# Altium schematic symbol library C 传感器.SCHLIB: 26 symbols
Pins are listed as number, name and electrical type; pins without a type are passive.

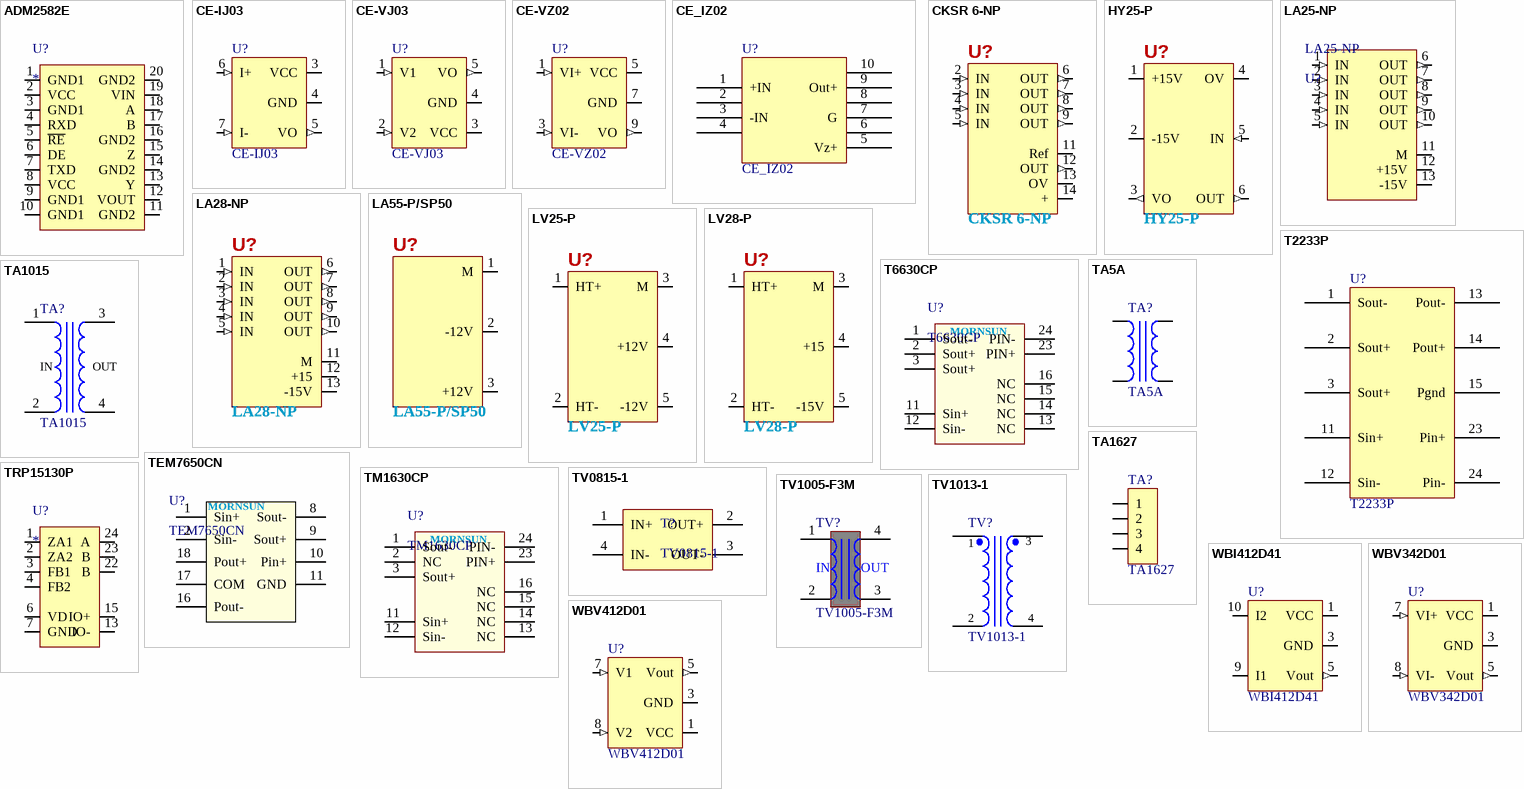
[diagram p0: symbols ADM2582E to WBV412D01]

## ADM2582E
designator U?
pins: 1 GND1, 2 VCC, 3 GND1, 4 RXD, 5 ~{RE}, 6 DE, 7 TXD, 8 VCC, 9 GND1, 10 GND1, 11 GND2, 12 VOUT, 13 Y, 14 GND2, 15 Z, 16 GND2, 17 B, 18 A, 19 VIN, 20 GND2

## CE-IJ03
designator U?
传感器-电流
pins: 3 VCC (power), 4 GND (power), 5 VO (out), 6 I+ (in), 7 I- (in)

## CE-VJ03
designator U?
传感器-交流电压
pins: 1 V1 (in), 2 V2 (in), 3 VCC (power), 4 GND (power), 5 VO (out)

## CE-VZ02
designator U?
传感器-直流电压
footprint CE-H2
pins: 1 VI+ (in), 3 VI- (in), 5 VCC (power), 7 GND (power), 9 VO (out)

## CE_IZ02
designator U?
传感器—电流
pins: 1 +IN, 2 hidden, 3 -IN, 4 hidden, 5 Vz+, 6 hidden, 7 G, 8 hidden, 9 Out+, 10 hidden

## CKSR 6-NP
designator U?
电流传感器
pins: 2 IN (in), 3 IN (in), 4 IN (in), 5 IN (in), 6 OUT (out), 7 OUT (out), 8 OUT (out), 9 OUT (out), 11 Ref (power), 12 OUT (out), 13 OV (power), 14 + (power)
2 alternate drawings of the same symbol

## HY25-P
designator U?
电流传感器
pins: 1 +15V (power), 2 -15V (power), 3 VO (out), 4 OV, 5 IN (in), 6 OUT (out)
2 alternate drawings of the same symbol

## LA25-NP
designator LA25-NP, comment U?
电流传感器
pins: 1 IN (in), 2 IN (in), 3 IN (in), 4 IN (in), 5 IN (in), 6 OUT (out), 7 OUT (out), 8 OUT (out), 9 OUT (out), 10 OUT (out), 11 M (power), 12 +15V (power), 13 -15V (power)

## LA28-NP
designator U?
电流传感器
pins: 1 IN (in), 2 IN (in), 3 IN (in), 4 IN (in), 5 IN (in), 6 OUT (out), 7 OUT (out), 8 OUT (out), 9 OUT (out), 10 OUT (out), 11 M (power), 12 +15 (power), 13 -15V (power)
2 alternate drawings of the same symbol

## LA55-P/SP50
designator U?
电流传感器
pins: 1 M, 2 -12V, 3 +12V
2 alternate drawings of the same symbol

## LV25-P
designator U?
电压互感器
pins: 1 HT+, 2 HT-, 3 M, 4 +12V, 5 -12V
2 alternate drawings of the same symbol

## LV28-P
designator U?
电压传感器
pins: 1 HT+, 2 HT-, 3 M, 4 +15, 5 -15V
2 alternate drawings of the same symbol

## T2233P
designator U?
隔离变送器
pins: 1 Sout-, 2 Sout+, 3 Sout+, 11 Sin+, 12 Sin-, 13 Pout-, 14 Pout+, 15 Pgnd, 23 Pin+, 24 Pin-

## T6630CP
designator U?
隔离变送器
pins: 1 Sout-, 2 Sout+, 3 Sout+, 11 Sin+, 12 Sin-, 13 NC, 14 NC, 15 NC, 16 NC, 23 PIN+, 24 PIN-
text: MORNSUN

## TA5A
designator TA?
BingZi电流互感器
pins: 1, 2, 3, 4

## TA1015
designator TA?
pins: 1, 2, 3, 4
text: IN; OUT

## TA1627
designator TA?
*
pins: 1, 2, 3, 4

## TEM7650CN
designator U?
信号调理器
pins: 1 Sin+, 2 Sin-, 8 Sout-, 9 Sout+, 10 Pin+, 11 GND, 16 Pout-, 17 COM, 18 Pout+
text: MORNSUN

## TM1630CP
designator U?
隔离变送器
pins: 1 Sout-, 2 NC, 3 Sout+, 11 Sin+, 12 Sin-, 13 NC, 14 NC, 15 NC, 16 NC, 23 PIN+, 24 PIN-
text: MORNSUN

## TRP15130P
designator U?
pins: 1 ZA1, 2 ZA2, 3 FB1, 4 FB2, 6 VD, 7 GND, 13 IO-, 15 IO+, 22 B, 23 B, 24 A

## TV0815-1
designator T?
pins: 1 IN+, 2 OUT+, 3 OUT-, 4 IN-

## TV1005-F3M
designator TV?
BingZi传感器
pins: 1, 2, 3, 4
text: IN; OUT

## TV1013-1
designator TV?
电压互感器
pins: 1, 2, 3, 4

## WBI412D41
designator U?
传感器-交流电流
pins: 1 VCC (power), 3 GND (power), 5 Vout (out), 9 I1 (power), 10 I2

## WBV342D01
designator U?
传感器-直流电压
pins: 1 VCC (power), 3 GND (power), 5 Vout (out), 7 VI+ (in), 8 VI- (in)

## WBV412D01
designator U?
传感器-交流电压
pins: 1 VCC (power), 3 GND (power), 5 Vout (out), 7 V1 (in), 8 V2 (in)